# Altium footprint library PCB_Footprint.PcbLib: 124 footprints (part 1 of 8)
Each footprint in its own frame and in the unit in brackets; x right, y up, seen from the top. Pads: shape width x height; smd on the part's side, far side on the other; paste and mask are expansions set on the pad; w line width, h text height; cw(c..) or ccw(c..) is an arc to the next point about the centre after c.
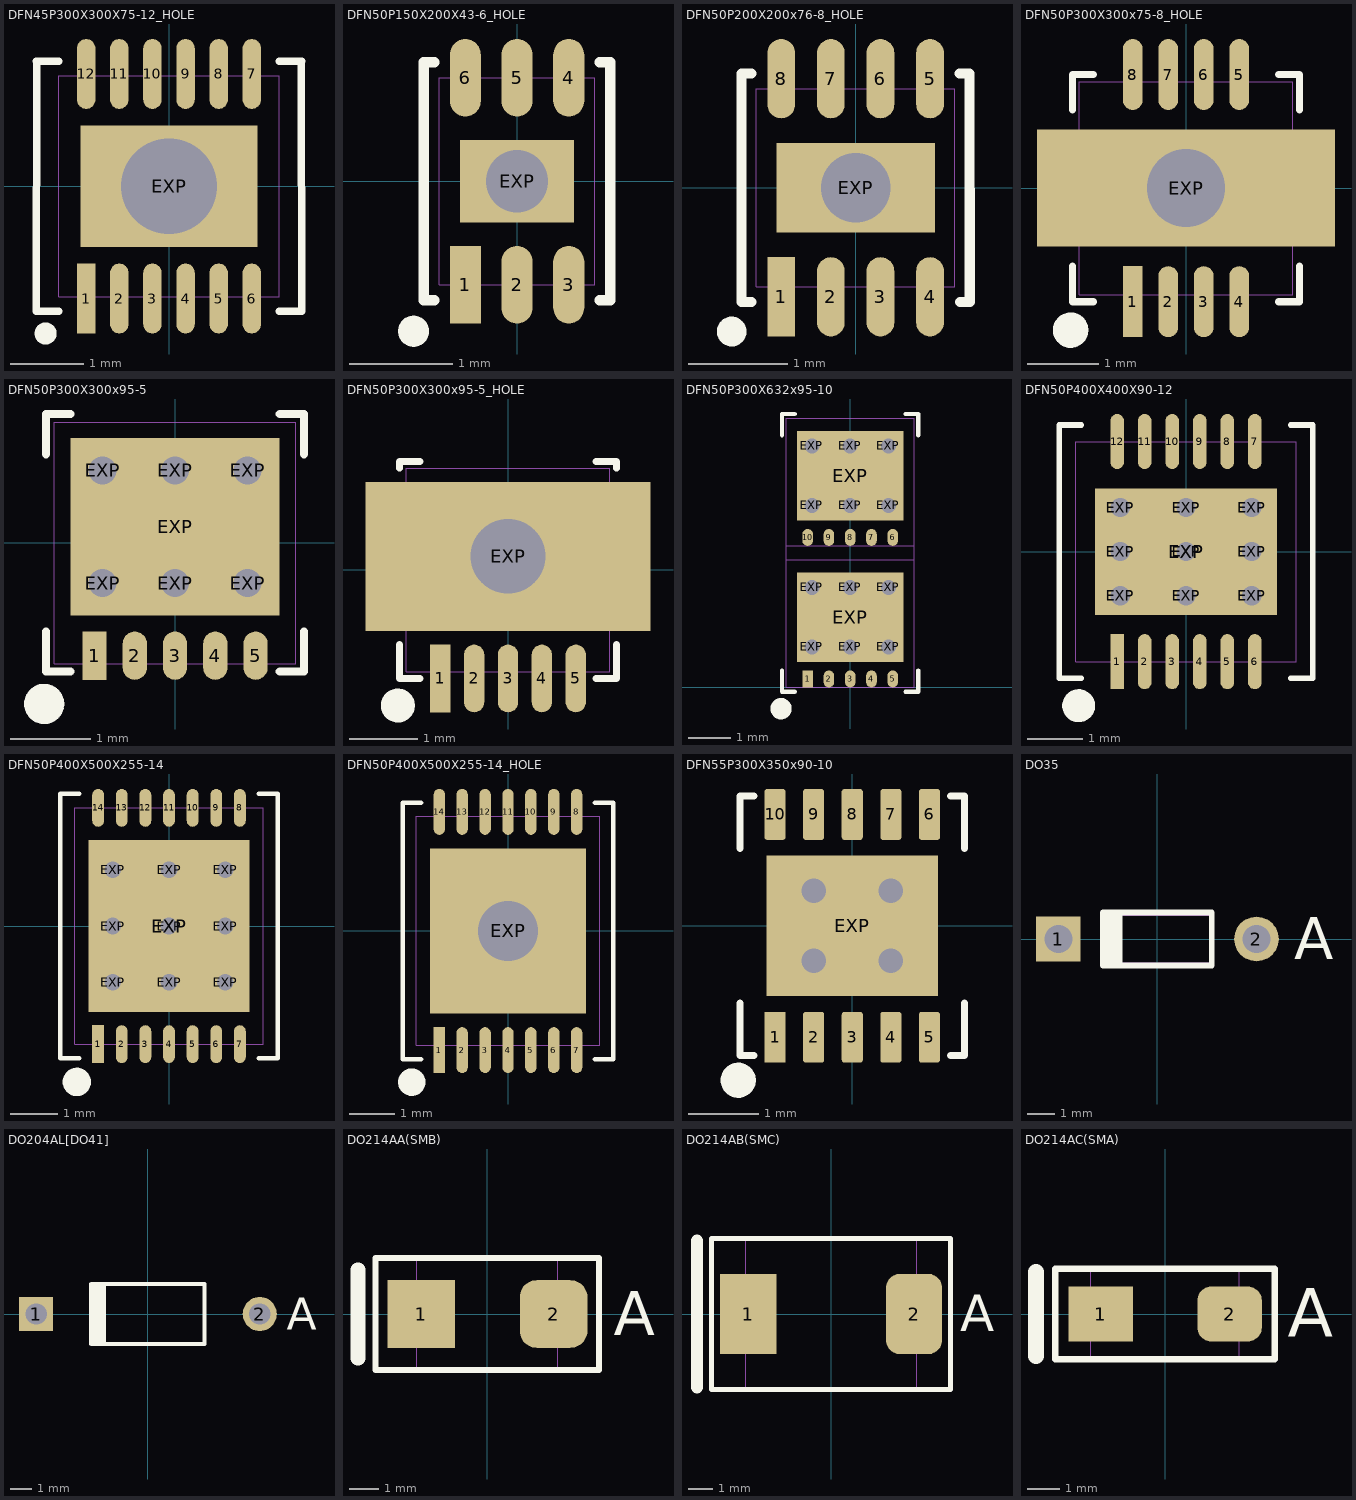
[diagram p0: the footprints below, top view; thin cyan lines are the x and y axes]

## DFN45P300X300X75-12_HOLE [mm] "DFN, 12-Leads, Body 3.0x3x0.75mm, Pitch 0.45mm, Hole in exposed pad"
height 0.75
pads (13):
  rect 0.25x0.95 smd: 1(-1.125,-1.525)
  oval 0.25x0.95 smd: 2(-0.675,-1.525) 3(-0.225,-1.525) 4(0.225,-1.525) 5(0.675,-1.525) 6(1.125,-1.525) 7(1.125,1.525) 8(0.675,1.525) 9(0.225,1.525) 10(-0.225,1.525) 11(-0.675,1.525) 12(-1.125,1.525)
  rect 2.4x1.65 hole 1.3: EXP(0,0)
Top Overlay:
  circle w0.15: c-1.675,-2 r0.075
  lines w0.102: -1.5,-1.7 -1.8,-1.7 -1.799,1.7 -1.5,1.7 ; 1.5,-1.7 1.8,-1.7 1.799,1.7 1.5,1.7
Component Body:
  lines w0.01: -1.5,-1.5 -1.5,1.5 1.5,1.5 1.5,-1.5 -1.5,-1.5
3D body: height 0.75, standoff 0, extent -1.499,-1.499 1.499,1.499

## DFN50P150X200X43-6_HOLE [mm] "DFN, 6-Leads, Body 1.5x2x0.43mm, Pitch 0.5mm, Hole in exposed pad"
height 0.43
pads (7):
  rect 0.3x0.75 smd: 1(-0.5,-1)
  oval 0.3x0.75 smd: 2(0,-1) 3(0.5,-1) 4(0.5,1) 5(0,1) 6(-0.5,1)
  rect 1.1x0.8 hole 0.6: EXP(0,0)
Top Overlay:
  circle w0.15: c-1,-1.45 r0.075
  lines w0.102: -0.801,-1.151 -0.901,-1.151 -0.9,1.15 -0.8,1.15 ; 0.8,-1.15 0.9,-1.15 0.901,1.151 0.801,1.151
Component Body:
  lines w0.01: -0.749,-0.999 -0.749,0.999 0.749,0.999 0.749,-0.999 -0.749,-0.999
3D body: height 0.43, standoff 0, extent -0.749,-0.999 0.749,0.999

## DFN50P200X200x76-8_HOLE [mm] "DFN, 8-Leads, Body 2x2x0.76mm, Pitch 0.5mm, Hole in exposed pad"
height 0.76
pads (9):
  rect 0.28x0.8 smd: 1(-0.75,-1.1)
  oval 0.28x0.8 smd: 2(-0.25,-1.1) 3(0.25,-1.1) 4(0.75,-1.1) 5(0.75,1.1) 6(0.25,1.1) 7(-0.25,1.1) 8(-0.75,1.1)
  rect 1.6x0.9 hole 0.7: EXP(0,0)
Top Overlay:
  circle w0.15: c-1.25,-1.45 r0.075
  lines w0.102: -1.05,-1.15 -1.15,-1.15 -1.15,1.15 -1.05,1.15 ; 1.05,-1.15 1.15,-1.15 1.15,1.15 1.05,1.15
Component Body:
  lines w0.01: -1,-1 -1,1 1,1 1,-1 -1,-1
3D body: height 0.76, standoff 0, extent -0.999,-0.999 0.999,0.999

## DFN50P300X300x75-8_HOLE [mm] "DFN, 8-Leads, Body 3x3x0.75mm, Pitch 0.5mm, Hole in exposed pad"
height 0.75
pads (9):
  rect 0.28x1 smd: 1(-0.75,-1.6)
  oval 0.28x1 smd: 2(-0.25,-1.6) 3(0.25,-1.6) 4(0.75,-1.6) 5(0.75,1.6) 6(0.25,1.6) 7(-0.25,1.6) 8(-0.75,1.6)
  rect 4.2x1.65 hole 1.1: EXP(0,0)
Top Overlay:
  circle w0.25: c-1.625,-2 r0.125
  lines w0.1: -1.6,-1.1 -1.6,-1.6 -1.3,-1.6 ; -1.6,1.1 -1.6,1.6 -1.3,1.6 ; 1.3,-1.6 1.6,-1.6 1.6,-1.1 ; 1.3,1.6 1.6,1.6 1.6,1.1
Component Body:
  lines w0.01: -1.5,-1.5 1.5,-1.5 1.5,1.5 -1.5,1.5 -1.5,-1.5
3D body: height 0.75, standoff 0, extent -1.5,-1.5 1.5,1.5

## DFN50P300X300x95-5 [mm] "DFN, 5-Leads, Body 3x3x0.95mm, Pitch 0.5mm"
height 0.95
pads (12):
  rect 0.3x0.6 smd: 1(-1,-1.4)
  oval 0.3x0.6 smd: 2(-0.5,-1.4) 3(0,-1.4) 4(0.5,-1.4) 5(1,-1.4)
  round 0.65 hole 0.35: EXP(-0.9,-0.5) EXP(-0.9,0.9) EXP(0,-0.5) EXP(0,0.9) EXP(0.9,-0.5) EXP(0.9,0.9)
  rect 2.6x2.2 smd: EXP(0,0.2)
Top Overlay:
  circle w0.25: c-1.625,-2 r0.125
  lines w0.1: -1.6,-1.1 -1.6,-1.6 -1.3,-1.6 ; -1.6,1.1 -1.6,1.6 -1.3,1.6 ; 1.3,-1.6 1.6,-1.6 1.6,-1.1 ; 1.3,1.6 1.6,1.6 1.6,1.1
Top Solder:
  lines w0.3: -1,-1.1 1,-1.1
Component Body:
  lines w0.01: -1.5,-1.5 -1.5,1.5 1.5,1.5 1.5,-1.5 -1.5,-1.5
3D body: height 0.95, standoff 0, extent -1.5,-1.5 1.5,1.5

## DFN50P300X300x95-5_HOLE [mm] "DFN, 5-Leads, Body 3x3x0.95mm, Pitch 0.5mm, Hole in exposed pad"
height 0.95
pads (6):
  rect 0.3x1 smd: 1(-1,-1.6)
  oval 0.3x1 smd: 2(-0.5,-1.6) 3(0,-1.6) 4(0.5,-1.6) 5(1,-1.6)
  rect 4.2x2.2 / inner rect 1.5x1.5 / far side rect 1.7x1.7 hole 1.1: EXP(0,0.2)
Top Overlay:
  circle w0.25: c-1.625,-2 r0.125
  lines w0.1: -1.6,-1.1 -1.6,-1.6 -1.3,-1.6 ; -1.6,1.5 -1.6,1.6 -1.3,1.6 ; 1.3,-1.6 1.6,-1.6 1.6,-1.1 ; 1.3,1.6 1.6,1.6 1.6,1.5
Top Solder:
  lines w0.3: -1,-1.1 1,-1.1
Component Body:
  lines w0.01: -1.5,-1.5 1.5,-1.5 1.5,1.5 -1.5,1.5 -1.5,-1.5
3D body: height 0.95, standoff 0, extent -1.5,-1.5 1.5,1.5

## DFN50P300X632x95-10 [mm] "DFN, 2x5-Leads, Body 3x6.325x0.95mm, Pitch 0.5mm"
height 0.95
pads (24):
  rect 0.25x0.4 smd: 1(-1,0.2)
  oval 0.25x0.4 smd: 2(-0.5,0.2) 3(0,0.2) 4(0.5,0.2) 5(1,0.2) 6(1,3.525) 7(0.5,3.525) 8(0,3.525) 9(-0.5,3.525) 10(-1,3.525)
  round 0.65 hole 0.35: EXP(-0.9,0.95) EXP(-0.9,2.35) EXP(-0.9,4.275) EXP(-0.9,5.675) EXP(0,0.95) EXP(0,2.35) EXP(0,4.275) EXP(0,5.675) EXP(0.9,0.95) EXP(0.9,2.35) EXP(0.9,4.275) EXP(0.9,5.675)
  rect 2.5x2.1 smd: EXP(0,1.65) EXP(0,4.975)
Top Overlay:
  circle w0.25: c-1.625,-0.5 r0.125
  lines w0.1: -1.6,0.4 -1.6,-0.1 -1.3,-0.1 ; -1.6,5.925 -1.6,6.425 -1.3,6.425 ; 1.3,-0.1 1.6,-0.1 1.6,0.4 ; 1.3,6.425 1.6,6.425 1.6,5.925
Top Solder:
  lines w0.3: -1,0.5 1,0.5 ; -1,3.825 1,3.825
Component Body:
  lines w0.01: -1.5,3.325 1.5,3.325 ; -1.5,0 1.5,0 1.5,6.325 -1.5,6.325 -1.5,0 ; -1.5,3 1.5,3 -1.5,3
3D body: height 0.95, standoff 0, extent -1.5,0 1.5,6.325

## DFN50P400X400X90-12 [mm] "QFN, 12-Leads, dual, Body 4x4x0.9mm, Pitch 0.5mm"
height 0.9
pads (22):
  rect 0.25x1 smd: 1(-1.25,-2)
  oval 0.25x1 smd: 2(-0.75,-2) 3(-0.25,-2) 4(0.25,-2) 5(0.75,-2) 6(1.25,-2) 7(1.25,2) 8(0.75,2) 9(0.25,2) 10(-0.25,2) 11(-0.75,2) 12(-1.25,2)
  round 0.65 hole 0.35: EXP(-1.194,-0.8) EXP(-1.194,0) EXP(-1.194,0.8) EXP(0,-0.8) EXP(0,0) EXP(0,0.8) EXP(1.194,-0.8) EXP(1.194,0) EXP(1.194,0.8)
  rect 3.3x2.3 smd: EXP(0,0)
Top Overlay:
  circle w0.3: c-1.95,-2.8 r0.15
  lines w0.102: -1.9,-2.3 -2.3,-2.3 -2.3,2.3 -1.9,2.3 ; 1.9,-2.3 2.3,-2.3 2.3,2.3 1.9,2.3
Bottom Solder:
  circle w0.4: c0,0 r0.2
Component Body:
  lines w0.01: -2,-2 2,-2 2,2 -2,2 -2,-2
3D body: height 0.9, standoff 0, extent -2,-2 2,2

## DFN50P400X500X255-14 [mm] "QFN, 14-Leads, dual, Body 4x5x2.55mm, Pitch 0.5mm"
height 2.55
pads (24):
  rect 0.25x0.8 smd: 1(-1.5,-2.5)
  oval 0.25x0.8 smd: 2(-1,-2.5) 3(-0.5,-2.5) 4(0,-2.5) 5(0.5,-2.5) 6(1,-2.5) 7(1.5,-2.5) 8(1.5,2.5) 9(1,2.5) 10(0.5,2.5) 11(0,2.5) 12(-0.5,2.5) 13(-1,2.5) 14(-1.5,2.5)
  round 0.65 hole 0.35: EXP(-1.194,-1.194) EXP(-1.194,0) EXP(-1.194,1.194) EXP(0,-1.194) EXP(0,0) EXP(0,1.194) EXP(1.194,-1.194) EXP(1.194,0) EXP(1.194,1.194)
  rect 3.4x3.65 smd: EXP(0,0)
Top Overlay:
  circle w0.3: c-1.95,-3.3 r0.15
  lines w0.102: -1.9,-2.8 -2.3,-2.8 -2.3,2.8 -1.9,2.8 ; 1.9,-2.8 2.3,-2.8 2.3,2.8 1.9,2.8
Bottom Solder:
  circle w0.4: c0,0 r0.2
Component Body:
  lines w0.01: -2,-2.499 2,-2.499 2,2.501 -2,2.501 -2,-2.499
3D body: height 2.55, standoff 0, extent -2,-2.5 2,2.5

## DFN50P400X500X255-14_HOLE [mm] "QFN, 14-Leads, dual, Body 4x5x2.55mm, Pitch 0.5mm, Hole in exposed pad"
height 2.55
pads (15):
  rect 0.25x1 smd: 1(-1.5,-2.6)
  oval 0.25x1 smd: 2(-1,-2.6) 3(-0.5,-2.6) 4(0,-2.6) 5(0.5,-2.6) 6(1,-2.6) 7(1.5,-2.6) 8(1.5,2.6) 9(1,2.6) 10(0.5,2.6) 11(0,2.6) 12(-0.5,2.6) 13(-1,2.6) 14(-1.5,2.6)
  rect 3.4x3.6 hole 1.3: EXP(0,0)
Top Overlay:
  circle w0.3: c-2.1,-3.3 r0.15
  lines w0.102: -1.9,-2.8 -2.3,-2.8 -2.3,2.8 -1.9,2.8 ; 1.9,-2.8 2.3,-2.8 2.3,2.8 1.9,2.8
Component Body:
  lines w0.01: -2,-2.499 2,-2.499 2,2.501 -2,2.501 -2,-2.499
3D body: height 2.55, standoff 0, extent -2,-2.5 2,2.5

## DFN55P300X350x90-10 [mm] "DFN, 10-Leads, Body 3x3.5x0.9mm, Pitch 0.55mm"
height 0.9
pads (11):
  rect 0.3x0.725 smd paste+0 mask+0.05: 1(-1.1,-1.587)
  rrect25% 0.3x0.725 smd paste+0 mask+0.05: 2(-0.55,-1.587) 3(0,-1.587) 4(0.55,-1.587) 5(1.1,-1.587) 6(1.1,1.587) 7(0.55,1.587) 8(0,1.587) 9(-0.55,1.587) 10(-1.1,1.587)
  rect 2.45x2 smd paste+0 mask+0.05: EXP(0,0)
via 0.55,0.5 diameter 0.65 hole 0.35
via -0.55,0.5 diameter 0.65 hole 0.35
via 0.55,-0.5 diameter 0.65 hole 0.35
via -0.55,-0.5 diameter 0.65 hole 0.35
Top Overlay:
  circle w0.25: c-1.625,-2.2 r0.125
  lines w0.1: -1.6,-1.1 -1.6,-1.85 -1.4,-1.85 ; -1.6,1.1 -1.6,1.85 -1.4,1.85 ; 1.4,-1.85 1.6,-1.85 1.6,-1.1 ; 1.4,1.85 1.6,1.85 1.6,1.1
3D body: height 0.9, standoff 0, extent -1.5,-1.75 1.5,1.75

## DO35 [mm] "Diode, Axial; Body 3.9 x 1.9 mm (LxDia. max), Lead Dia. 0.53 mm (max)"
height 1.9
pads (2):
  rect 1.6x1.6 / inner rect 1.9x1.9 / far side rect 1.6x1.6 hole 1: 1(-3.55,0)
  round 1.6 / inner round 1.9 / far side round 1.6 hole 1: 2(3.55,0)
Top Overlay:
  region: -1.25,0.95 -2.05,0.95 -2.05,-0.95 -1.25,-0.95
  lines w0.2: -1.95,-0.95 1.95,-0.95 1.95,0.95 -1.95,0.95
  text "A" at 4.9,-0.725 h1.5
Component Body:
  lines w0.01: -1.95,-0.85 1.95,-0.85 1.95,0.85 -1.95,0.85 -1.95,-0.85
3D body: height 0.85, standoff -6.5, extent 3.153,-0.399 3.95,0.399
3D body: height 0.85, standoff -6.5, extent -3.947,-0.399 -3.15,0.399
3D body: height 1.25, standoff 0.45, extent -3.95,-0.399 3.95,0.399
3D body: height 1.69, standoff 0, extent -1.95,-0.85 1.95,0.847

## DO204AL[DO41] [mm] "Diode, Axial; Body 5.2 x 2.7 mm (LxDia. max), Lead Dia. 0.86 mm (max)"
height 2.7
pads (2):
  rect 1.6x1.6 / inner rect 1.9x1.9 / far side rect 1.6x1.6 hole 1: 1(-5.23,0)
  round 1.6 / inner round 1.9 / far side round 1.6 hole 1: 2(5.23,0)
Top Overlay:
  region: -1.95,1.4 -2.75,1.4 -2.75,-1.4 -1.95,-1.4
  lines w0.2: -2.65,-1.4 2.65,-1.4 2.65,1.4 -2.65,1.4
  text "A" at 6.5,-0.725 h1.5
Component Body:
  lines w0.01: -2.6,-1.35 -2.6,1.35 2.6,1.35 2.6,-1.35 -2.6,-1.35
3D body: height 1.35, standoff -6.5, extent 4.833,-0.399 5.63,0.399
3D body: height 1.35, standoff -6.5, extent -5.627,-0.399 -4.83,0.399
3D body: height 1.75, standoff 0.95, extent -5.63,-0.399 5.63,0.399
3D body: height 2.69, standoff 0, extent -2.6,-1.347 2.6,1.347

## DO214AA(SMB) [mm] "DO-214-AA/SMB; 2 C-Bend Leads; Body 5.3 x 3.8 mm, inc. leads (LxW)"
height 2.5
pads (2):
  rect 2.3x2.3 smd: 1(-2.25,0)
  rrect50% 2.3x2.3 smd: 2(2.25,0)
Top Overlay:
  lines w0.2: -3.8,-1.9 -3.8,1.9 3.8,1.9 3.8,-1.9 -3.8,-1.9
  lines w0.5: -4.4,-1.5 -4.4,1.5
  text "A" at 4.3,-0.725 h1.5
Component Body:
  lines w0.01: -2.4,-1.9 2.4,-1.9 2.4,1.9 -2.4,1.9 -2.4,-1.9
3D body: height 2.5, standoff 0, extent -2.4,-1.9 2.4,1.9

## DO214AB(SMC) [mm] "DO-214-AB/SMC; 2 C-Bend Leads; Body  8.0 x 6.2 mm, inc. leads (LxW)"
height 2.7
pads (2):
  rect 2.3x3.3 smd: 1(-3.4,0)
  rrect50% 2.3x3.3 smd: 2(3.4,0)
Top Overlay:
  lines w0.2: -4.9,-3.1 4.9,-3.1 4.9,3.1 -4.9,3.1 -4.9,-3.1
  lines w0.5: -5.5,-3 -5.5,3
  text "A" at 5.3,-0.7 h1.5
Component Body:
  lines w0.01: -3.5,-3.1 3.5,-3.1 3.5,3.1 -3.5,3.1 -3.5,-3.1
3D body: height 2.7, standoff 0, extent -3.5,-3.1 3.5,3.1

## DO214AC(SMA) [mm] "DO-214-AC/SMA; 2 C-Bend Leads; Body 5.0 x 2.7 mm, inc. leads (LxW)"
height 2.5
pads (2):
  rect 2x1.7 smd: 1(-2,0)
  rrect50% 2x1.7 smd: 2(2,0)
Top Overlay:
  lines w0.2: -3.4,-1.4 3.4,-1.4 3.4,1.4 -3.4,1.4 -3.4,-1.4
  lines w0.5: -4,-1.3 -4,1.3
  text "A" at 3.8,-0.7 h1.5
Component Body:
  lines w0.01: -2.3,-1.4 -2.3,1.4 2.3,1.4 2.3,-1.4 -2.3,-1.4
3D body: height 2.5, standoff 0, extent -2.3,-1.4 2.3,1.4